# EAGLE library part LSM330DLCTR (library LSM330)
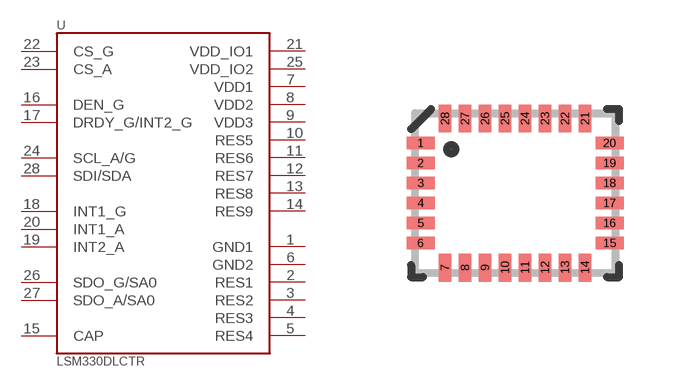
[diagram p0: symbol with the pads of LGA28-4X5; footprint LGA28-4X5]

Designator prefix U

## LSM330DLCTR  [LGA28-4X5]
1  GND1
2  RES1
3  RES2
4  RES3
5  RES4
6  GND2
7  VDD1
8  VDD2
9  VDD3
10  RES5
11  RES6
12  RES7
13  RES8
14  RES9
15  CAP
16  DEN_G
17  DRDY_G/INT2_G
18  INT1_G
19  INT2_A
20  INT1_A
21  VDD_IO1
22  CS_G
23  CS_A
24  SCL_A/G
25  VDD_IO2
26  SDO_G/SA0
27  SDO_A/SA0
28  SDI/SDA

## Footprint LGA28-4X5 (pad centres in mm)
smd 0.7 x 0.31: 1 -2.362,1.25; 2 -2.362,0.75; 3 -2.362,0.25; 4 -2.362,-0.25; 5 -2.362,-0.75; 6 -2.362,-1.25; 15 2.362,-1.25; 16 2.362,-0.75; 17 2.362,-0.25; 18 2.362,0.25; 19 2.362,0.75; 20 2.362,1.25
smd 0.31 x 0.7: 7 -1.75,-1.863; 8 -1.25,-1.863; 9 -0.75,-1.863; 10 -0.25,-1.863; 11 0.25,-1.863; 12 0.75,-1.863; 13 1.25,-1.863; 14 1.75,-1.863; 21 1.75,1.863; 22 1.25,1.863; 23 0.75,1.863; 24 0.25,1.863; 25 -0.25,1.863; 26 -0.75,1.863; 27 -1.25,1.863; 28 -1.75,1.863